# Altium schematic symbol library SAMTEC_FTSH.SchLib: 2 symbols
Pins are listed as number, name and electrical type; pins without a type are passive.

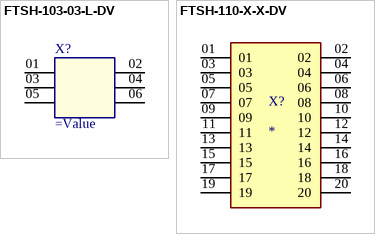
[diagram p0: symbols FTSH-103-03-L-DV to FTSH-110-X-X-DV]

## FTSH-103-03-L-DV
designator X?
pins: 01, 02, 03, 04, 05, 06

## FTSH-110-X-X-DV
designator X?
Connector Header Surface Mount 20 position 0.050" (1.27mm); MP: FTSH-110-X-X-DV; Price: None; Value: *; Availability: Unavailable; Package: None
pins: 01, 02, 03, 04, 05, 06, 07, 08, 09, 10, 11, 12, 13, 14, 15, 16, 17, 18, 19, 20